# Altium footprint library FEV-60_PcbLib.PcbLib: 19 footprints (part 1 of 2)
Each footprint in its own frame and in the unit in brackets; x right, y up, seen from the top. Pads: shape width x height; smd on the part's side, far side on the other; paste and mask are expansions set on the pad; w line width, h text height; cw(c..) or ccw(c..) is an arc to the next point about the centre after c.
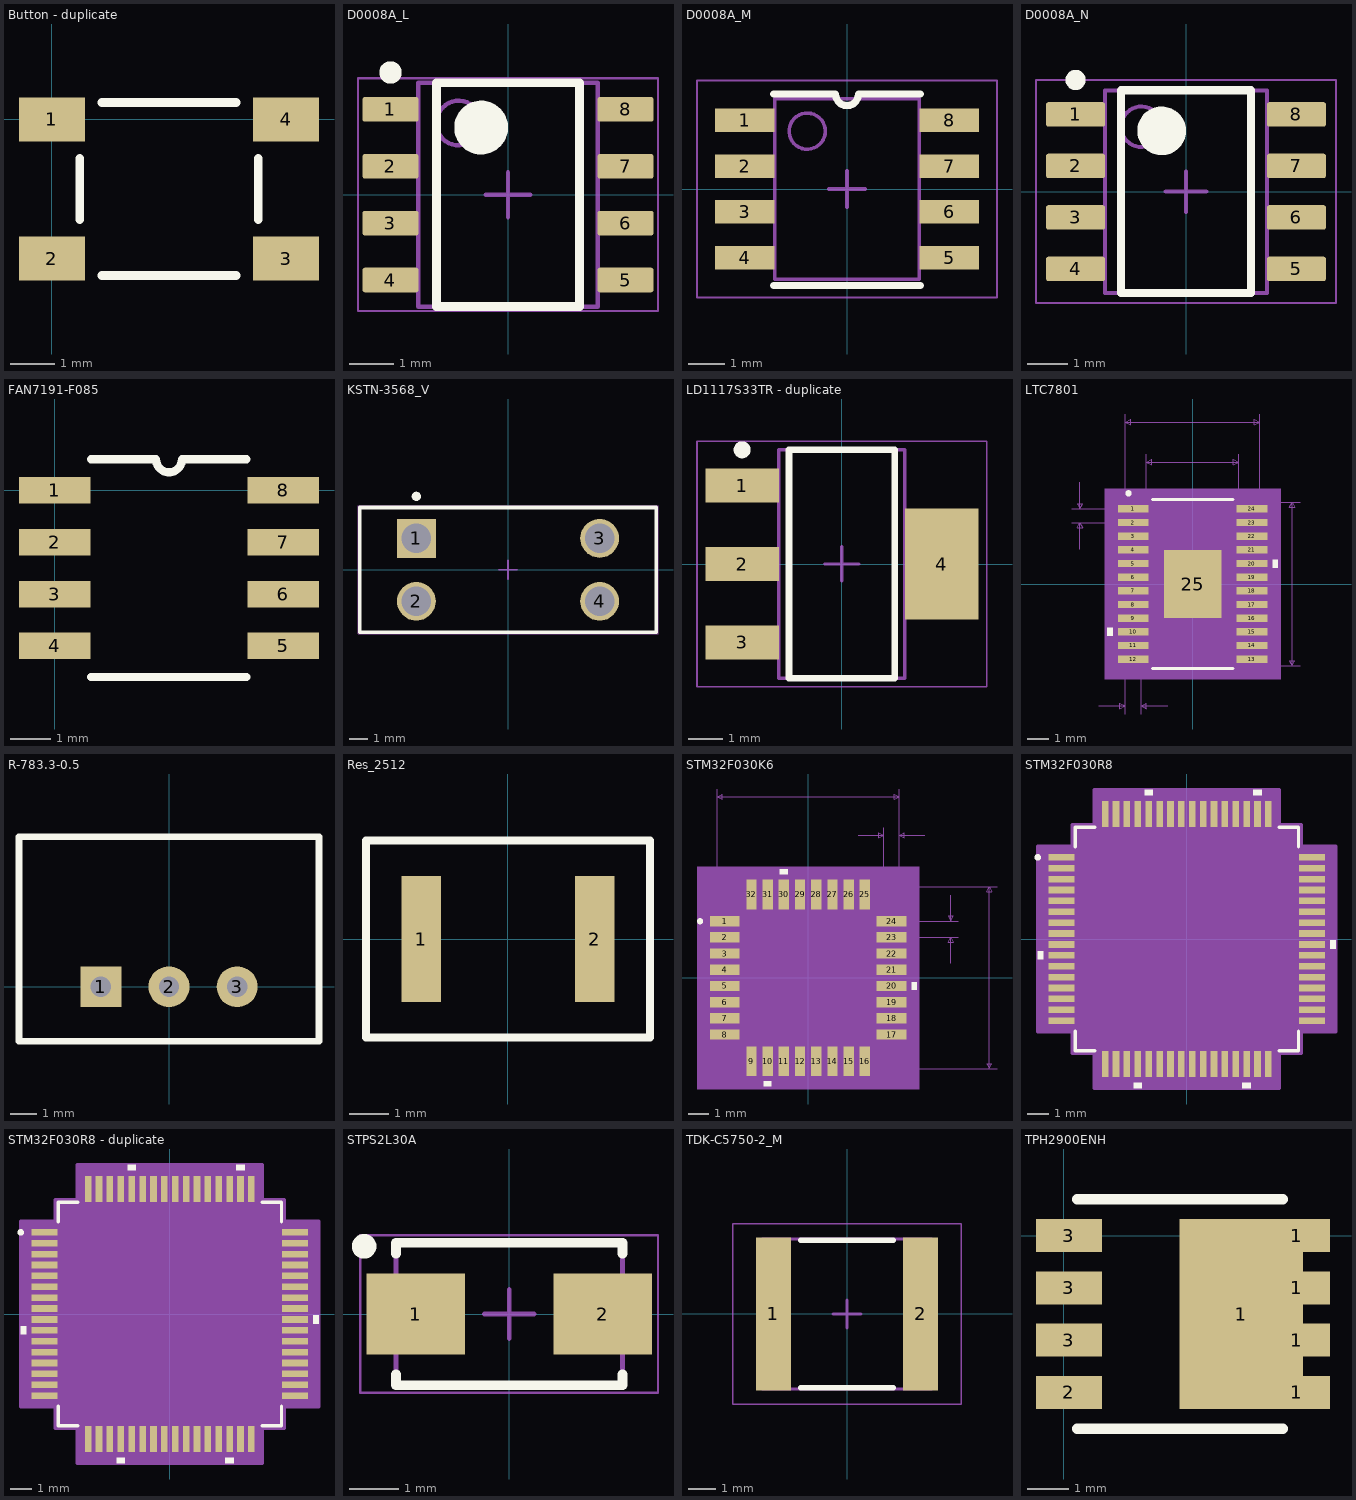
[diagram p0: the footprints below, top view; thin cyan lines are the x and y axes]

## Button - duplicate [mm]
pads (4):
  rect 1.5x1 smd: 1(0,0) 2(0,-3.175) 3(5.334,-3.175) 4(5.334,0)
Top Overlay:
  lines w0.2: 0.635,-2.286 0.635,-0.889 ; 1.143,-3.556 4.191,-3.556 ; 1.143,0.381 4.191,0.381 ; 4.699,-2.286 4.699,-0.889

## D0008A_L [mm] "SOIC, 8-Leads, Body 5x4mm, Pitch 1.27mm, IPC High Density"
height 1.75
pads (8):
  rrect18% 1.25x0.55 smd: 1(-2.625,1.905) 2(-2.625,0.635) 3(-2.625,-0.635) 4(-2.625,-1.905) 5(2.625,-1.905) 6(2.625,-0.635) 7(2.625,0.635) 8(2.625,1.905)
Top Overlay:
  circle w0.6: c-0.6,1.5 r0.3
  circle w0.25: c-2.625,2.73 r0.125
  lines w0.2: -1.6,-2.5 1.6,-2.5 1.6,2.5 -1.6,2.5 -1.6,-2.5
Mechanical 1:
  text ".Designator" at -1.397,-0.254 h0.6
Mechanical 13:
  circle w0.1: c-1.1,1.6 r0.5
  lines w0.1: -2,-2.5 2,-2.5 2,2.5 -2,2.5 -2,-2.5
Mechanical 15:
  lines w0.05: -3.35,-2.6 3.35,-2.6 3.35,2.6 -3.35,2.6 -3.35,-2.6
  lines w0.1: -0.5,0 0.5,0 ; 0,-0.5 0,0.5
3D body "SOIC-8akaD0008AakaM08A.stp": height 1.63, standoff 0, extent -3,-2.45 3,2.45

## D0008A_M [mm] "SOIC, 8-Leads, Body 5x4mm, Pitch 1.27mm, IPC Low Density"
height 1.75
pads (8):
  rect 1.65x0.65 smd: 1(-2.825,1.905) 2(-2.825,0.635) 3(-2.825,-0.635) 4(-2.825,-1.905) 5(2.825,-1.905) 6(2.825,-0.635) 7(2.825,0.635) 8(2.825,1.905)
Top Overlay:
  lines w0.2: -2.032,-2.667 2.032,-2.667 ; -2.032,2.627 -0.318,2.627 ccw(c0,2.627) 0.318,2.627 2.032,2.627
Mechanical 13:
  circle w0.1: c-1.1,1.6 r0.5
  lines w0.1: -2,-2.5 2,-2.5 2,2.5 -2,2.5 -2,-2.5
Mechanical 15:
  lines w0.05: -4.15,-3 4.15,-3 4.15,3 -4.15,3 -4.15,-3
  lines w0.1: -0.5,0 0.5,0 ; 0,-0.5 0,0.5
3D body "SOIC-8akaD0008AakaM08A.stp": height 1.63, standoff 0, extent -3,-2.45 3,2.45

## D0008A_N [mm] "SOIC, 8-Leads, Body 5x4mm, Pitch 1.27mm, IPC Medium Density"
height 1.75
pads (8):
  rrect17% 1.45x0.6 smd: 1(-2.725,1.905) 2(-2.725,0.635) 3(-2.725,-0.635) 4(-2.725,-1.905) 5(2.725,-1.905) 6(2.725,-0.635) 7(2.725,0.635) 8(2.725,1.905)
Top Overlay:
  circle w0.25: c-2.725,2.755 r0.125
  circle w0.6: c-0.6,1.5 r0.3
  lines w0.2: -1.6,-2.5 -1.6,2.5 1.6,2.5 1.6,-2.5 -1.6,-2.5
Mechanical 1:
  text ".Designator" at -1.397,-0.254 h0.6
Mechanical 13:
  circle w0.1: c-1.1,1.6 r0.5
  lines w0.1: -2,-2.5 -2,2.5 2,2.5 2,-2.5 -2,-2.5
Mechanical 15:
  lines w0.05: -3.7,-2.75 -3.7,2.75 3.7,2.75 3.7,-2.75 -3.7,-2.75
  lines w0.1: -0.5,0 0.5,0 ; 0,-0.5 0,0.5
3D body "SOIC-8akaD0008AakaM08A.stp": height 1.63, standoff 0, extent -3,-2.45 3,2.45

## FAN7191-F085 [mm]
pads (8):
  rect 1.75x0.65 smd: 1(0,0) 2(0,-1.27) 3(0,-2.54) 4(0,-3.81) 5(5.6,-3.81) 6(5.6,-2.54) 7(5.6,-1.27) 8(5.6,0)
Top Overlay:
  lines w0.2: 0.889,-4.572 4.699,-4.572 ; 0.889,0.762 2.482,0.762 ccw(c2.8,0.762) 3.117,0.762 4.699,0.762

## KSTN-3568_V [mm] "THD, 4-Leads, Body 16x6.73mm, Pitch 9.9mm"
height 7.37
pads (4):
  rect 2.1x2.1 hole 1.6: 1(-4.95,1.7)
  round 2.1 hole 1.6: 2(-4.95,-1.7) 3(4.95,1.7) 4(4.95,-1.7)
Top Overlay:
  circle w0.25: c-4.95,3.965 r0.125
  lines w0.2: -8,-3.365 -8,3.365 8,3.365 8,-3.365 -8,-3.365
Mechanical 13:
  lines w0.1: -8,-3.365 8,-3.365 8,3.365 -8,3.365 -8,-3.365
Mechanical 15:
  lines w0.05: -8.1,-3.465 8.1,-3.465 8.1,3.465 -8.1,3.465 -8.1,-3.465
  lines w0.1: -0.5,0 0.5,0 ; 0,-0.5 0,0.5
3D body "keystone-PN3568.step": height 7.44, standoff -2.72, extent -8,-3.366 8.002,3.366

## LD1117S33TR - duplicate [mm] "SOT223, LDO 3.3V Converter"
height 1.8
pads (4):
  rect 2.15x1 smd: 1(-2.925,2.3) 2(-2.925,0) 3(-2.925,-2.3)
  rect 2.15x3.25 smd: 4(2.925,0)
Top Overlay:
  circle w0.25: c-2.925,3.35 r0.125
  lines w0.2: -1.55,-3.35 1.55,-3.35 1.55,3.35 -1.55,3.35 -1.55,-3.35
Mechanical 13:
  lines w0.1: -1.85,-3.35 1.85,-3.35 1.85,3.35 -1.85,3.35 -1.85,-3.35
Mechanical 15:
  lines w0.05: -4.25,-3.6 4.25,-3.6 4.25,3.6 -4.25,3.6 -4.25,-3.6
  lines w0.1: -0.5,0 0.5,0 ; 0,-0.5 0,0.5
3D body "LD1117S33TR.step": height 1.8, standoff 0, extent -3.5,-3.35 3.5,3.35

## LTC7801 [mm]
pads (25):
  rect 1.461x0.351 smd: 1(-2.825,3.575) 2(-2.825,2.925) 3(-2.825,2.275) 4(-2.825,1.625) 5(-2.825,0.975) 6(-2.825,0.325) 7(-2.825,-0.325) 8(-2.825,-0.975) 9(-2.825,-1.625) 10(-2.825,-2.275) 11(-2.825,-2.925) 12(-2.825,-3.575) 13(2.825,-3.575) 14(2.825,-2.925) 15(2.825,-2.275) 16(2.825,-1.625) 17(2.825,-0.975) 18(2.825,-0.325) 19(2.825,0.325) 20(2.825,0.975) 21(2.825,1.625) 22(2.825,2.275) 23(2.825,2.925) 24(2.825,3.575)
  rect 2.74x3.25 smd paste-1.612: 25(0,0)
Top Overlay:
  circle w0.152: c-3.048,4.318 r0.076
  region: 3.81,1.165 4.064,1.165 4.064,0.784 3.81,0.784
  region: -3.81,-2.084 -4.064,-2.084 -4.064,-2.465 -3.81,-2.465
  lines w0.152: -1.909,-4.027 1.909,-4.027 ; -1.909,4.027 1.909,4.027
Top Paste:
  region: 1.27,-0.1 0.1,-0.1 0.1,-1.525 1.27,-1.525
  region: 1.27,1.525 0.1,1.525 0.1,0.1 1.27,0.1
  region: -0.1,-0.1 -1.27,-0.1 -1.27,-1.525 -0.1,-1.525
  region: -0.1,1.525 -1.27,1.525 -1.27,0.1 -0.1,0.1
Mechanical 5:
  region: 4.191,-4.535 -4.191,-4.535 -4.191,4.535 4.191,4.535
Mechanical 7:
  lines w0.025: -5.746,2.925 -2.825,2.925 ; -5.746,3.575 -2.825,3.575 ; -5.365,1.655 -5.365,2.925 ; -5.365,4.845 -5.365,3.575 ; -4.47,-5.805 -3.2,-5.805 ; -3.2,-6.186 -3.2,0 -3.2,8.091 ; -2.45,-6.186 -2.45,0 ; -2.2,0 -2.2,6.186 ; -1.18,-5.805 -2.45,-5.805 ; 0,-3.9 5.121,-3.9 ; 0,3.9 5.121,3.9 ; 2.2,0 2.2,6.186 ; 3.2,0 3.2,8.091 ; -5.365,2.925 -5.238,2.671 -5.492,2.671 -5.365,2.925 ; -5.365,3.575 -5.238,3.829 -5.492,3.829 -5.365,3.575 ; -3.2,-5.805 -3.454,-5.932 -3.454,-5.678 -3.2,-5.805 ; -3.2,7.71 -2.946,7.583 -2.946,7.837 -3.2,7.71 ; -3.2,7.71 3.2,7.71 ; -2.45,-5.805 -2.196,-5.932 -2.196,-5.678 -2.45,-5.805 ; -2.2,5.805 -1.946,5.678 -1.946,5.932 -2.2,5.805 ; -2.2,5.805 2.2,5.805 ; 2.2,5.805 1.946,5.678 1.946,5.932 2.2,5.805 ; 3.2,7.71 2.946,7.583 2.946,7.837 3.2,7.71 ; 4.74,-3.9 4.867,-3.646 4.613,-3.646 4.74,-3.9 ; 4.74,-3.9 4.74,3.9 ; 4.74,3.9 4.867,3.646 4.613,3.646 4.74,3.9
  text "0.03in/0.75mm" at -4.889,-6.948 h0.64
  text "0.026in/0.65mm" at -10.318,2.933 h0.64
  text "0.307in/7.8mm" at 5.248,-0.318 h0.64
  text "0.252in/6.4mm" at -2.064,8.218 h0.64
  text "0.173in/4.4mm" at -2.064,6.313 h0.64
  text "Alt 2 Padstyle: b229_152h76" at -8.572,-16.6 h1.27
  text "Alt 1 Padstyle: b152_229h76" at -8.572,-15.076 h1.27
  text "Heat Tab Padstyle: r274_325" at -8.572,-12.028 h1.27
  text "Pin One Padstyle: r146_35" at -7.938,-10.504 h1.27
  text "Default Padstyle: r146_35" at -7.938,-8.98 h1.27
Mechanical 13:
  lines w0: -0.305,3.9 ccw(c0,3.9) 0.305,3.9
  lines w0.025: -3.2,-3.725 -2.2,-3.725 -2.2,-3.425 -3.2,-3.425 -3.2,-3.725 ; -3.2,-3.075 -2.2,-3.075 -2.2,-2.775 -3.2,-2.775 -3.2,-3.075 ; -3.2,-2.425 -2.2,-2.425 -2.2,-2.125 -3.2,-2.125 -3.2,-2.425 ; -3.2,-1.775 -2.2,-1.775 -2.2,-1.475 -3.2,-1.475 -3.2,-1.775 ; -3.2,-1.125 -2.2,-1.125 -2.2,-0.825 -3.2,-0.825 -3.2,-1.125 ; -3.2,-0.475 -2.2,-0.475 -2.2,-0.175 -3.2,-0.175 -3.2,-0.475 ; -3.2,0.175 -2.2,0.175 -2.2,0.475 -3.2,0.475 -3.2,0.175 ; -3.2,0.825 -2.2,0.825 -2.2,1.125 -3.2,1.125 -3.2,0.825 ; -3.2,1.475 -2.2,1.475 -2.2,1.775 -3.2,1.775 -3.2,1.475 ; -3.2,2.125 -2.2,2.125 -2.2,2.425 -3.2,2.425 -3.2,2.125 ; -3.2,2.775 -2.2,2.775 -2.2,3.075 -3.2,3.075 -3.2,2.775 ; -3.2,3.425 -2.2,3.425 -2.2,3.725 -3.2,3.725 -3.2,3.425 ; -2.2,-3.9 -2.2,3.9 2.2,3.9 2.2,-3.9 -2.2,-3.9 ; 2.2,-3.725 3.2,-3.725 3.2,-3.425 2.2,-3.425 2.2,-3.725 ; 2.2,-3.075 3.2,-3.075 3.2,-2.775 2.2,-2.775 2.2,-3.075 ; 2.2,-2.425 3.2,-2.425 3.2,-2.125 2.2,-2.125 2.2,-2.425 ; 2.2,-1.775 3.2,-1.775 3.2,-1.475 2.2,-1.475 2.2,-1.775 ; 2.2,-1.125 3.2,-1.125 3.2,-0.825 2.2,-0.825 2.2,-1.125 ; 2.2,-0.475 3.2,-0.475 3.2,-0.175 2.2,-0.175 2.2,-0.475 ; 2.2,0.175 3.2,0.175 3.2,0.475 2.2,0.475 2.2,0.175 ; 2.2,0.825 3.2,0.825 3.2,1.125 2.2,1.125 2.2,0.825 ; 2.2,1.475 3.2,1.475 3.2,1.775 2.2,1.775 2.2,1.475 ; 2.2,2.125 3.2,2.125 3.2,2.425 2.2,2.425 2.2,2.125 ; 2.2,2.775 3.2,2.775 3.2,3.075 2.2,3.075 2.2,2.775 ; 2.2,3.425 3.2,3.425 3.2,3.725 2.2,3.725 2.2,3.425
  text "*" at -2.137,2.554 h1.27
Mechanical 15:
  region: -2.454,-4.004 -3.81,-4.004 -3.81,4.004 -2.454,4.004 -2.454,4.154 2.454,4.154 2.454,4.004 3.81,4.004 3.81,-4.004 2.454,-4.004 2.454,-4.154 -2.454,-4.154
  lines w0.152: -3.81,-4.004 -2.454,-4.004 -2.454,-4.154 2.454,-4.154 2.454,-4.004 3.81,-4.004 3.81,4.004 2.454,4.004 2.454,4.154 -2.454,4.154 -2.454,4.004 -3.81,4.004 -3.81,-4.004
3D body: height 0.25, standoff 0, extent 0,0 0.254,0.254
3D body "TSSOP24_FE_AA.step": height 1.2, standoff 0, extent -3.2,-3.9 3.2,3.9

## R-783.3-0.5 [mil]
pads (3):
  rect 60x60 hole 30: 1(-100,0)
  round 60 hole 30: 2(0,0) 3(100,0)
Top Overlay:
  lines w10: -220,-80 0,-80 220,-80 220,220 -220,220 -220,-80

## Res_2512 [mm]
pads (2):
  rect 1x3.2 smd: 1(-2.2,0) 2(2.2,0)
Top Overlay:
  lines w0.2: -3.6,-2.5 -3.6,0 -3.6,2.5 3.6,2.5 3.6,-2.5 -3.6,-2.5

## STM32F030K6 [mil]
pads (32):
  rect 58x20 smd: 1(-162,110.24) 2(-162,78.74) 3(-162,47.24) 4(-162,15.75) 5(-162,-15.75) 6(-162,-47.24) 7(-162,-78.74) 8(-162,-110.24) 17(162,-110.24) 18(162,-78.74) 19(162,-47.24) 20(162,-15.75) 21(162,15.75) 22(162,47.24) 23(162,78.74) 24(162,110.24)
  rect 20x58 smd: 9(-110.24,-162) 10(-78.74,-162) 11(-47.24,-162) 12(-15.75,-162) 13(15.75,-162) 14(47.24,-162) 15(78.74,-162) 16(110.24,-162) 25(110.24,162) 26(78.74,162) 27(47.24,162) 28(15.75,162) 29(-15.75,162) 30(-47.24,162) 31(-78.74,162) 32(-110.24,162)
Top Overlay:
  circle w6: c-210,110 r3
  region: -39.74,201 -54.74,201 -54.74,211 -39.74,211
  region: 201,-8.25 211,-8.25 211,-23.25 201,-23.25
  region: -71.24,-201 -86.24,-201 -86.24,-211 -71.24,-211
Mechanical 5:
  region: 216,-216 -216,-216 -216,216 216,216
Mechanical 7:
  lines w1: -177,110.24 -177,367 ; 97,277 147,277 ; 110.24,-177 367,-177 ; 110.24,177 367,177 ; 147,110.24 147,292 ; 162,78.74 292,78.74 ; 162,110.24 292,110.24 ; 177,292 177,110.24 177,367 ; 227,277 177,277 ; 277,28.74 277,78.74 ; 277,160.24 277,110.24 ; -177,352 -167,347 -167,357 -177,352 ; -177,352 177,352 ; 147,277 137,272 137,282 147,277 ; 177,277 187,272 187,282 177,277 ; 177,352 167,347 167,357 177,352 ; 277,78.74 282,68.74 272,68.74 277,78.74 ; 277,110.24 282,120.24 272,120.24 277,110.24 ; 352,-177 357,-167 347,-167 352,-177 ; 352,-177 352,177 ; 352,177 357,167 347,167 352,177
  text "0.354in/8.992mm" at 372,-12.5 h25
  text "0.354in/8.992mm" at -93.75,372 h25
  text "0.03in/0.762mm" at 74.5,297 h25
  text "0.031in/0.8mm" at 297,81.99 h25
  text "Alt 2 Padstyle: OX90Y60D30P" at -337.5,-727 h50
  text "Alt 1 Padstyle: OX60Y90D30P" at -337.5,-667 h50
  text "Default Vert Padstyle: RX20Y58D0T" at -412.5,-487 h50
  text "Default Horiz Padstyle: RX20Y58D0T" at -425,-427 h50
Mechanical 13:
  lines w1: -138,88 -88,138 ; -177,-119.24 -138,-119.24 -138,-101.24 -177,-101.24 -177,-119.24 ; -177,-87.74 -138,-87.74 -138,-69.74 -177,-69.74 -177,-87.74 ; -177,-56.24 -138,-56.24 -138,-38.24 -177,-38.24 -177,-56.24 ; -177,-24.75 -138,-24.75 -138,-6.75 -177,-6.75 -177,-24.75 ; -177,6.75 -138,6.75 -138,24.75 -177,24.75 -177,6.75 ; -177,38.24 -138,38.24 -138,56.24 -177,56.24 -177,38.24 ; -177,69.74 -138,69.74 -138,87.74 -177,87.74 -177,69.74 ; -177,101.24 -138,101.24 -138,119.24 -177,119.24 -177,101.24 ; -138,-138 -138,138 138,138 138,-138 -138,-138 ; -119.24,-177 -101.24,-177 -101.24,-138 -119.24,-138 -119.24,-177 ; -119.24,138 -119.24,177 -101.24,177 -101.24,138 -119.24,138 ; -87.74,-177 -69.74,-177 -69.74,-138 -87.74,-138 -87.74,-177 ; -87.74,138 -87.74,177 -69.74,177 -69.74,138 -87.74,138 ; -56.24,-177 -38.24,-177 -38.24,-138 -56.24,-138 -56.24,-177 ; -56.24,138 -56.24,177 -38.24,177 -38.24,138 -56.24,138 ; -24.75,-177 -6.75,-177 -6.75,-138 -24.75,-138 -24.75,-177 ; -24.75,138 -24.75,177 -6.75,177 -6.75,138 -24.75,138 ; 6.75,-177 24.75,-177 24.75,-138 6.75,-138 6.75,-177 ; 6.75,138 6.75,177 24.75,177 24.75,138 6.75,138 ; 38.24,-177 56.24,-177 56.24,-138 38.24,-138 38.24,-177 ; 38.24,138 38.24,177 56.24,177 56.24,138 38.24,138 ; 69.74,-177 87.74,-177 87.74,-138 69.74,-138 69.74,-177 ; 69.74,138 69.74,177 87.74,177 87.74,138 69.74,138 ; 101.24,-177 119.24,-177 119.24,-138 101.24,-138 101.24,-177 ; 101.24,138 101.24,177 119.24,177 119.24,138 101.24,138 ; 138,-119.24 177,-119.24 177,-101.24 138,-101.24 138,-119.24 ; 138,-87.74 177,-87.74 177,-69.74 138,-69.74 138,-87.74 ; 138,-56.24 177,-56.24 177,-38.24 138,-38.24 138,-56.24 ; 138,-24.75 177,-24.75 177,-6.75 138,-6.75 138,-24.75 ; 138,6.75 177,6.75 177,24.75 138,24.75 138,6.75 ; 138,38.24 177,38.24 177,56.24 138,56.24 138,38.24 ; 138,69.74 177,69.74 177,87.74 138,87.74 138,69.74 ; 138,101.24 177,101.24 177,119.24 138,119.24 138,101.24
  text "*" at -135.5,100.98 h50
Mechanical 15:
  region: -130.24,-148 -148,-148 -148,-130.24 -207,-130.24 -207,130.24 -148,130.24 -148,148 -130.24,148 -130.24,207 130.24,207 130.24,148 148,148 148,130.24 207,130.24 207,-130.24 148,-130.24 148,-148 130.24,-148 130.24,-207 -130.24,-207
  lines w6: -207,-130.24 -207,130.24 -148,130.24 -148,148 -130.24,148 -130.24,207 130.24,207 130.24,148 148,148 148,130.24 207,130.24 207,-130.24 148,-130.24 148,-148 130.24,-148 130.24,-207 -130.24,-207 -130.24,-148 -148,-148 -148,-130.24 -207,-130.24
3D body "LQFP-32.step": height 63.11, standoff 0, extent -177,-177 177.01,177.02
3D body: height 10, standoff 0, extent 0,0 10,10

## STM32F030R8 [mm]
pads (64):
  rect 1.194x0.305 smd: 1(-5.75,3.75) 2(-5.75,3.25) 3(-5.75,2.75) 4(-5.75,2.25) 5(-5.75,1.75) 6(-5.75,1.25) 7(-5.75,0.75) 8(-5.75,0.25) 9(-5.75,-0.25) 10(-5.75,-0.75) 11(-5.75,-1.25) 12(-5.75,-1.75) 13(-5.75,-2.25) 14(-5.75,-2.75) 15(-5.75,-3.25) 16(-5.75,-3.75) 33(5.75,-3.75) 34(5.75,-3.25) 35(5.75,-2.75) 36(5.75,-2.25) 37(5.75,-1.75) 38(5.75,-1.25) 39(5.75,-0.75) 40(5.75,-0.25) 41(5.75,0.25) 42(5.75,0.75) 43(5.75,1.25) 44(5.75,1.75) 45(5.75,2.25) 46(5.75,2.75) 47(5.75,3.25) 48(5.75,3.75)
  rect 0.305x1.194 smd: 17(-3.75,-5.75) 18(-3.25,-5.75) 19(-2.75,-5.75) 20(-2.25,-5.75) 21(-1.75,-5.75) 22(-1.25,-5.75) 23(-0.75,-5.75) 24(-0.25,-5.75) 25(0.25,-5.75) 26(0.75,-5.75) 27(1.25,-5.75) 28(1.75,-5.75) 29(2.25,-5.75) 30(2.75,-5.75) 31(3.25,-5.75) 32(3.75,-5.75) 49(3.75,5.75) 50(3.25,5.75) 51(2.75,5.75) 52(2.25,5.75) 53(1.75,5.75) 54(1.25,5.75) 55(0.75,5.75) 56(0.25,5.75) 57(-0.25,5.75) 58(-0.75,5.75) 59(-1.25,5.75) 60(-1.75,5.75) 61(-2.25,5.75) 62(-2.75,5.75) 63(-3.25,5.75) 64(-3.75,5.75)
Top Overlay:
  circle w0.152: c-6.851,3.75 r0.076
  region: -1.559,6.601 -1.94,6.601 -1.94,6.855 -1.559,6.855
  region: 3.441,6.601 3.06,6.601 3.06,6.855 3.441,6.855
  region: 6.601,-0.059 6.855,-0.059 6.855,-0.44 6.601,-0.44
  region: 2.94,-6.601 2.559,-6.601 2.559,-6.855 2.94,-6.855
  region: -2.06,-6.601 -2.441,-6.601 -2.441,-6.855 -2.06,-6.855
  region: -6.601,-0.56 -6.855,-0.56 -6.855,-0.941 -6.601,-0.941
  lines w0.152: -5.131,-4.234 -5.131,-5.131 -4.234,-5.131 ; -5.131,4.234 -5.131,5.131 -4.234,5.131 ; 4.234,-5.131 5.131,-5.131 5.131,-4.234 ; 4.234,5.131 5.131,5.131 5.131,4.234
Mechanical 13:
  circle w0: c-4.518,3.75 r0.076
  lines w0.025: -5.004,3.734 -3.734,5.004 ; -5.004,-5.004 -5.004,5.004 5.004,5.004 5.004,-5.004 -5.004,-5.004
Mechanical 15:
  region: -4.258,-5.258 -5.258,-5.258 -5.258,-4.258 -6.855,-4.258 -6.855,4.258 -5.258,4.258 -5.258,5.258 -4.258,5.258 -4.258,6.855 4.258,6.855 4.258,5.258 5.258,5.258 5.258,4.258 6.855,4.258 6.855,-4.258 5.258,-4.258 5.258,-5.258 4.258,-5.258 4.258,-6.855 -4.258,-6.855
  lines w0.152: -6.855,-4.258 -6.855,4.258 -5.258,4.258 -5.258,5.258 -4.258,5.258 -4.258,6.855 4.258,6.855 4.258,5.258 5.258,5.258 5.258,4.258 6.855,4.258 6.855,-4.258 5.258,-4.258 5.258,-5.258 4.258,-5.258 4.258,-6.855 -4.258,-6.855 -4.258,-5.258 -5.258,-5.258 -5.258,-4.258 -6.855,-4.258
3D body: height 0.25, standoff 0, extent 0,0 0.254,0.254
3D body "LQFP64-10x10mm.step": height 1.6, standoff 0, extent -5.997,-5.997 5.997,5.997

## STM32F030R8 - duplicate [mm]
pads (64):
  rect 1.194x0.305 smd: 1(-5.75,3.75) 2(-5.75,3.25) 3(-5.75,2.75) 4(-5.75,2.25) 5(-5.75,1.75) 6(-5.75,1.25) 7(-5.75,0.75) 8(-5.75,0.25) 9(-5.75,-0.25) 10(-5.75,-0.75) 11(-5.75,-1.25) 12(-5.75,-1.75) 13(-5.75,-2.25) 14(-5.75,-2.75) 15(-5.75,-3.25) 16(-5.75,-3.75) 33(5.75,-3.75) 34(5.75,-3.25) 35(5.75,-2.75) 36(5.75,-2.25) 37(5.75,-1.75) 38(5.75,-1.25) 39(5.75,-0.75) 40(5.75,-0.25) 41(5.75,0.25) 42(5.75,0.75) 43(5.75,1.25) 44(5.75,1.75) 45(5.75,2.25) 46(5.75,2.75) 47(5.75,3.25) 48(5.75,3.75)
  rect 0.305x1.194 smd: 17(-3.75,-5.75) 18(-3.25,-5.75) 19(-2.75,-5.75) 20(-2.25,-5.75) 21(-1.75,-5.75) 22(-1.25,-5.75) 23(-0.75,-5.75) 24(-0.25,-5.75) 25(0.25,-5.75) 26(0.75,-5.75) 27(1.25,-5.75) 28(1.75,-5.75) 29(2.25,-5.75) 30(2.75,-5.75) 31(3.25,-5.75) 32(3.75,-5.75) 49(3.75,5.75) 50(3.25,5.75) 51(2.75,5.75) 52(2.25,5.75) 53(1.75,5.75) 54(1.25,5.75) 55(0.75,5.75) 56(0.25,5.75) 57(-0.25,5.75) 58(-0.75,5.75) 59(-1.25,5.75) 60(-1.75,5.75) 61(-2.25,5.75) 62(-2.75,5.75) 63(-3.25,5.75) 64(-3.75,5.75)
Top Overlay:
  circle w0.152: c-6.851,3.75 r0.076
  region: -1.559,6.601 -1.94,6.601 -1.94,6.855 -1.559,6.855
  region: 3.441,6.601 3.06,6.601 3.06,6.855 3.441,6.855
  region: 6.601,-0.059 6.855,-0.059 6.855,-0.44 6.601,-0.44
  region: 2.94,-6.601 2.559,-6.601 2.559,-6.855 2.94,-6.855
  region: -2.06,-6.601 -2.441,-6.601 -2.441,-6.855 -2.06,-6.855
  region: -6.601,-0.56 -6.855,-0.56 -6.855,-0.941 -6.601,-0.941
  lines w0.152: -5.131,-4.234 -5.131,-5.131 -4.234,-5.131 ; -5.131,4.234 -5.131,5.131 -4.234,5.131 ; 4.234,-5.131 5.131,-5.131 5.131,-4.234 ; 4.234,5.131 5.131,5.131 5.131,4.234
Mechanical 13:
  circle w0: c-4.518,3.75 r0.076
  lines w0.025: -5.004,3.734 -3.734,5.004 ; -5.004,-5.004 -5.004,5.004 5.004,5.004 5.004,-5.004 -5.004,-5.004
Mechanical 15:
  region: -4.258,-5.258 -5.258,-5.258 -5.258,-4.258 -6.855,-4.258 -6.855,4.258 -5.258,4.258 -5.258,5.258 -4.258,5.258 -4.258,6.855 4.258,6.855 4.258,5.258 5.258,5.258 5.258,4.258 6.855,4.258 6.855,-4.258 5.258,-4.258 5.258,-5.258 4.258,-5.258 4.258,-6.855 -4.258,-6.855
  lines w0.152: -6.855,-4.258 -6.855,4.258 -5.258,4.258 -5.258,5.258 -4.258,5.258 -4.258,6.855 4.258,6.855 4.258,5.258 5.258,5.258 5.258,4.258 6.855,4.258 6.855,-4.258 5.258,-4.258 5.258,-5.258 4.258,-5.258 4.258,-6.855 -4.258,-6.855 -4.258,-5.258 -5.258,-5.258 -5.258,-4.258 -6.855,-4.258
3D body: height 0.25, standoff 0, extent 0,0 0.254,0.254
3D body "LQFP64-10x10mm.step": height 1.6, standoff 0, extent -5.997,-5.997 5.997,5.997

## STPS2L30A [mm] "SODFL, Shottkey Diode"
height 2.45
pads (2):
  rect 2x1.65 smd: 1(-1.9,0) 2(1.9,0)
Top Overlay:
  circle w0.25: c-2.95,1.375 r0.125
  lines w0.2: -2.3,-1.225 -2.3,-1.45 2.3,-1.45 2.3,-1.225 ; -2.3,1.225 -2.3,1.45 2.3,1.45 2.3,1.225
Mechanical 13:
  lines w0.1: -2.3,-1.45 -2.3,1.45 2.3,1.45 2.3,-1.45 -2.3,-1.45
Mechanical 15:
  lines w0.05: -3.025,-1.6 -3.025,1.6 3.025,1.6 3.025,-1.6 -3.025,-1.6
  lines w0.1: -0.5,0 0.5,0 ; 0,-0.5 0,0.5
3D body "STPS2L30A.step": height 2.45, standoff 0, extent -2.538,-1.45 2.538,1.45

## TDK-C5750-2_M [mm] "SMD, 2-Leads, Body 6.1x5.4mm, IPC Low Density"
height 2.5
pads (2):
  rect 1.27x5.5 smd: 1(-2.644,0) 2(2.644,0)
Top Overlay:
  lines w0.2: -1.669,-2.65 1.669,-2.65 ; -1.669,2.65 1.669,2.65
Mechanical 13:
  lines w0.1: -3.05,-2.7 -3.05,2.7 3.05,2.7 3.05,-2.7 -3.05,-2.7
Mechanical 15:
  lines w0.05: -4.1,-3.25 -4.1,3.25 4.1,3.25 4.1,-3.25 -4.1,-3.25
  lines w0.1: -0.5,0 0.5,0 ; 0,-0.5 0,0.5
3D body: height 2.5, standoff 0, extent -2.85,-2.7 2.85,2.7
3D body: height 2.5, standoff 0, extent -3.05,-2.7 -2.85,2.7
3D body: height 2.5, standoff 0, extent 2.85,-2.7 3.05,2.7

## TPH2900ENH [mm]
pads (9):
  rect 3x4.61 smd: 1(4.318,-1.905)
  rect 1.6x0.8 smd: 1(5.673,-3.81) 1(5.673,-2.54) 1(5.673,-1.27) 1(5.673,0) 2(0.127,-3.81) 3(0.127,-2.54) 3(0.127,-1.27) 3(0.127,0)
Top Overlay:
  lines w0.254: 0.334,-4.699 5.334,-4.699 ; 0.334,0.889 5.334,0.889